# EAGLE library part DSOURCE8 (library ngspice)
The digital source provides for straightforward descriptions of digital signal vectors in a tabular format. The model reads input from the input file and, at the times specified in the file, generates the inputs along with the strengths listed. The format of the input file is as shown below. Note that comment lines are delineated through the use of a single “*” character in the first column of a line. This is similar to the way the SPICE program handles comments. 0.0000 Uu Uu Uu 1.234e-9 0s 1s 0z 1.376e-9 1s 0s 0z 2.5e-7 0s 0s 0z Note that in the example shown, whitespace (any combination of blanks, tabs, commas) is used to separate the time and state/strength tokens. The order of the input columns is important; the first column is always interpreted to mean “time”. The second through the N’th columns map to the out[0] through out[N-2] output nodes. A non-commented line which does not contain enough tokens to completely define all outputs for the digital source will cause an error. Also, time values must increase monotonically or an error will result in reading the source file. Errors will also occur if a line exists in source.txt which is neither a comment nor vector line. The only exception to this is in the case of a line that is completely blank; this is treated as a comment (note that such lines often occur at the end of text within a file; ignoring these in particular prevents nuisance errors on the part of the simulator).
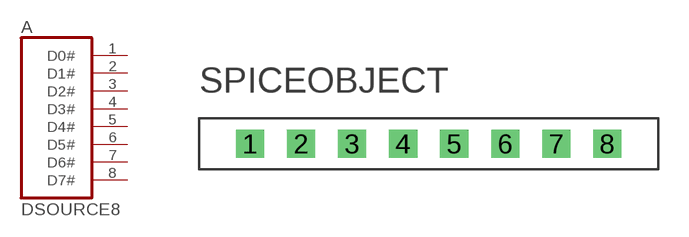
[diagram p5: symbol with the pads of SPICE8; footprint SPICE8]

Designator prefix A

## DSOURCE8 (SPICE_MODEL: .model >VALUE d_source(input_file input_load); SPICE_PORTS: [ 1 2 3 4 5 6 7 8 ]; SP_INPUT_FILE: "input.txt"; SP_INPUT_LOAD: 1e-12)  [SPICE8]
1  D0#  out
2  D1#  out
3  D2#  out
4  D3#  out
5  D4#  out
6  D5#  out
7  D6#  out
8  D7#  out

## Footprint SPICE8 (pad centres in mm)
drill 0.813 pad 1.397 square: 1 -8.89,0; 2 -6.35,0; 3 -3.81,0; 4 -1.27,0; 5 1.27,0; 6 3.81,0; 7 6.35,0; 8 8.89,0